# EAGLE library part CLX6F-RKB-CSTBB3 (library CLX6F-LED)
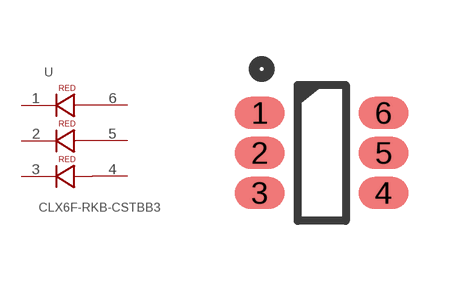
[diagram p1: symbol with the pads of SOJ100P350X290-6N; footprint SOJ100P350X290-6N]

Designator prefix -

## CLX6F-RKB-CSTBB3  [SOJ100P350X290-6N]
1  1  pas
2  2  pas
3  3  pas
4  4  pas
5  5  pas
6  6  pas

## Footprint SOJ100P350X290-6N (pad centres in mm)
smd 1.25 x 0.8: 1 -1.55,1; 2 -1.55,0; 3 -1.55,-1; 4 1.55,-1; 5 1.55,0; 6 1.55,1